# Altium footprint library OpticalComponents.PcbLib: 41 footprints (part 1 of 3)
Each footprint in its own frame and in the unit in brackets; x right, y up, seen from the top. Pads: shape width x height; smd on the part's side, far side on the other; paste and mask are expansions set on the pad; w line width, h text height; cw(c..) or ccw(c..) is an arc to the next point about the centre after c.
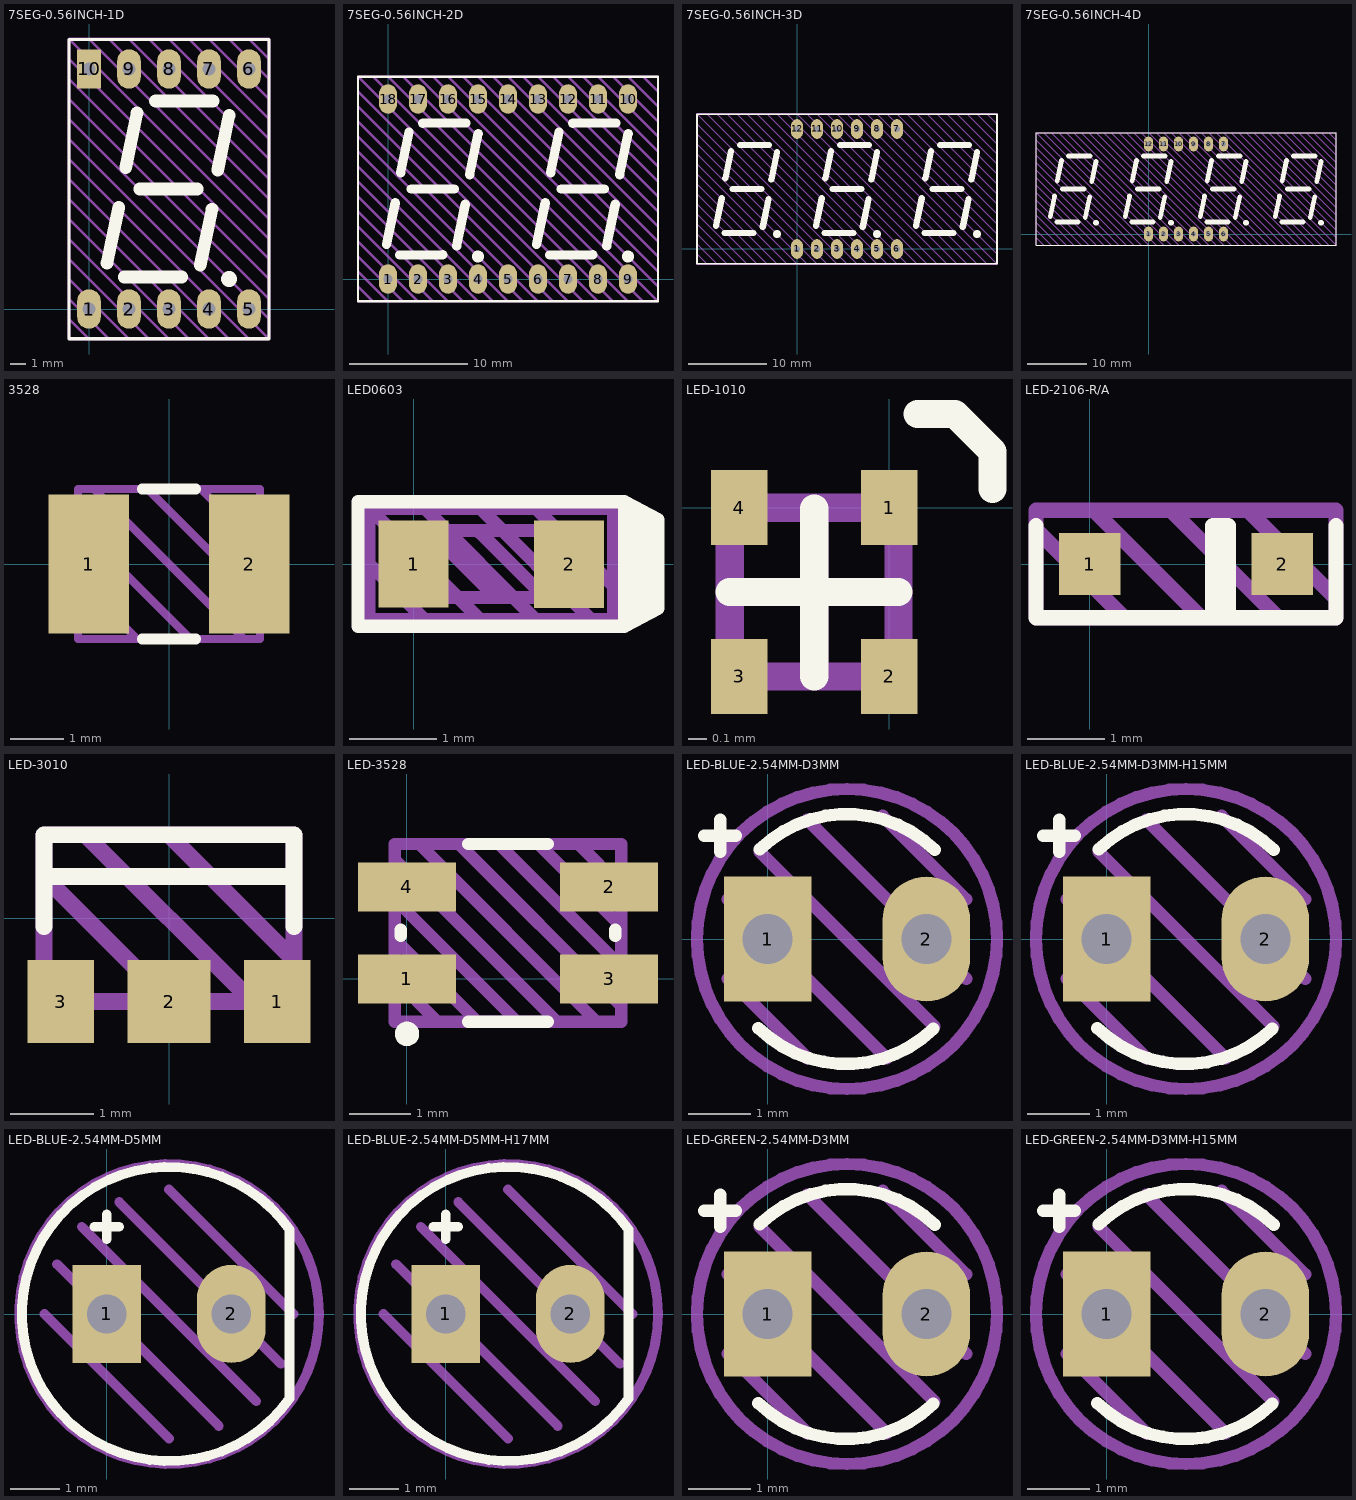
[diagram p0: the footprints below, top view; thin cyan lines are the x and y axes]

## 7SEG-0.56INCH-1D [mm]
pads (10):
  oval 1.5x2.5 hole 0.8: 1(0,0) 2(2.54,0) 3(5.08,0) 4(7.62,0) 5(10.16,0) 6(10.16,15.24) 7(7.62,15.24) 8(5.08,15.24) 9(2.54,15.24)
  rect 1.5x2.5 hole 0.8: 10(0,15.24)
Top Overlay:
  circle w0.8: c8.89,1.905 r0.1
  lines w0.2: -1.27,-1.887 -1.27,17.113 11.43,17.113 11.43,-1.887 10.584,-1.887 -1.27,-1.887
  lines w0.8: 1.143,2.921 1.88,6.45 ; 2.248,2.032 5.898,2.035 ; 2.331,8.988 3.048,12.446 ; 3.23,7.62 6.879,7.62 ; 4.224,13.205 7.874,13.208 ; 7.074,2.794 7.811,6.323 ; 8.177,8.829 8.894,12.287
Top Draw:
  lines w0.2: -1.27,-0.635 0,-1.905 ; -1.27,0.635 1.27,-1.905 ; -1.27,1.905 2.54,-1.905 ; -1.27,3.175 3.81,-1.905 ; -1.27,4.445 5.08,-1.905 ; -1.27,5.715 6.35,-1.905 ; -1.27,6.985 7.62,-1.905 ; -1.27,8.255 8.89,-1.905 ; -1.27,9.525 10.16,-1.905 ; -1.27,10.795 11.43,-1.905 ; -1.27,12.065 11.43,-0.635 ; -1.27,13.335 11.43,0.635 ; -1.27,14.605 11.43,1.905 ; -1.27,15.875 11.43,3.175 ; 0,17.145 11.43,5.715 ; 1.27,17.145 11.43,6.985 ; 2.54,17.145 11.43,8.255 ; 3.81,17.145 11.43,9.525 ; 5.08,17.145 11.43,10.795 ; 6.35,17.145 11.43,12.065 ; 7.62,17.145 11.43,13.335 ; 8.89,17.145 11.43,14.605 ; 10.16,17.145 11.43,15.875 ; 11.43,4.445 -1.27,17.145 ; -1.27,17.145 11.43,17.145 11.43,-1.905 ; -1.27,17.145 -1.27,-1.905 11.43,-1.905
Top Info:
  text "'.Comment'" at -1.27,-4.445 h1.5
3D body "SC56-11.step": height 8, standoff -2.5, extent -1.17,-1.88 11.33,17.12

## 7SEG-0.56INCH-2D [mm]
pads (18):
  oval 1.5x2.5 hole 0.8: 1(0,0) 2(2.54,0) 3(5.08,0) 4(7.62,0) 5(10.16,0) 6(12.7,0) 7(15.24,0) 8(17.78,0) 9(20.32,0) 10(20.32,15.24) 11(17.78,15.24) 12(15.24,15.24) 13(12.7,15.24) 14(10.16,15.24) 15(7.62,15.24) 16(5.08,15.24) 17(2.54,15.24) 18(0,15.24)
Top Overlay:
  circle w0.8: c20.32,1.905 r0.1
  circle w0.8: c7.62,1.905 r0.1
  lines w0.2: -2.54,-1.887 22.86,-1.887 22.86,17.113 -2.54,17.113 -2.54,-1.887
  lines w0.8: -0.127,2.921 0.61,6.45 ; 0.978,2.032 4.628,2.035 ; 1.061,8.988 1.778,12.446 ; 1.96,7.62 5.609,7.62 ; 2.954,13.205 6.604,13.208 ; 5.804,2.794 6.541,6.323 ; 6.907,8.829 7.624,12.287 ; 12.573,2.921 13.31,6.45 ; 13.678,2.032 17.328,2.035 ; 13.761,8.988 14.478,12.446 ; 14.66,7.62 18.309,7.62 ; 15.654,13.205 19.304,13.208 ; 18.504,2.794 19.241,6.323 ; 19.607,8.829 20.324,12.287
Top Draw:
  lines w0.2: -2.54,-0.635 -1.27,-1.905 ; -2.54,0.635 0,-1.905 ; -2.54,1.905 1.27,-1.905 ; -2.54,3.175 2.54,-1.905 ; -2.54,4.445 3.81,-1.905 ; -2.54,5.715 5.08,-1.905 ; -2.54,6.985 6.35,-1.905 ; -2.54,8.255 7.62,-1.905 ; -2.54,9.525 8.89,-1.905 ; -2.54,10.795 10.16,-1.905 ; -2.54,12.065 11.43,-1.905 ; -2.54,13.335 12.7,-1.905 ; -2.54,14.605 13.97,-1.905 ; -2.54,15.875 15.24,-1.905 ; -1.27,17.145 17.78,-1.905 ; 0,17.145 19.05,-1.905 ; 1.27,17.145 20.32,-1.905 ; 2.54,17.145 21.59,-1.905 ; 3.81,17.145 22.86,-1.905 ; 5.08,17.145 22.86,-0.635 ; 6.35,17.145 22.86,0.635 ; 7.62,17.145 22.86,1.905 ; 8.89,17.145 22.86,3.175 ; 10.16,17.145 22.86,4.445 ; 11.43,17.145 22.86,5.715 ; 12.7,17.145 22.86,6.985 ; 13.97,17.145 22.86,8.255 ; 15.24,17.145 22.86,9.525 ; 16.51,-1.905 -2.54,17.145 ; 16.51,17.145 22.86,10.795 ; 17.78,17.145 22.86,12.065 ; 19.05,17.145 22.86,13.335 ; 20.32,17.145 22.86,14.605 ; 21.59,17.145 22.86,15.875 ; -2.54,17.145 -2.54,-1.905 22.86,-1.905 ; -2.54,17.145 22.86,17.145 22.86,-1.905
Top Info:
  text "'.Comment'" at 3.787,-4.05 h1.5
3D body "DC56-11.step": height 8, standoff -2.5, extent -2.34,-1.88 22.66,17.12

## 7SEG-0.56INCH-3D [mm]
pads (12):
  oval 1.5x2.5 hole 0.8: 1(0,0) 2(2.54,0) 3(5.08,0) 4(7.62,0) 5(10.16,0) 6(12.7,0) 7(12.7,15.24) 8(10.16,15.24) 9(7.62,15.24) 10(5.08,15.24) 11(2.54,15.24) 12(0,15.24)
Top Overlay:
  circle w0.8: c22.86,1.905 r0.1
  circle w0.8: c10.16,1.905 r0.1
  circle w0.8: c-2.54,1.905 r0.1
  lines w0.2: -12.7,-1.887 25.4,-1.887 25.4,17.113 -12.7,17.113 -12.7,-1.887
  lines w0.8: -10.287,2.921 -9.55,6.45 ; -9.182,2.032 -5.532,2.035 ; -9.099,8.988 -8.382,12.446 ; -8.2,7.62 -4.551,7.62 ; -7.206,13.205 -3.556,13.208 ; -4.356,2.794 -3.619,6.323 ; -3.253,8.829 -2.536,12.287 ; 2.413,2.921 3.15,6.45 ; 3.518,2.032 7.168,2.035 ; 3.601,8.988 4.318,12.446 ; 4.5,7.62 8.149,7.62 ; 5.494,13.205 9.144,13.208 ; 8.344,2.794 9.081,6.323 ; 9.447,8.829 10.164,12.287 ; 15.113,2.921 15.85,6.45 ; 16.218,2.032 19.868,2.035 ; 16.301,8.988 17.018,12.446 ; 17.2,7.62 20.849,7.62 ; 18.194,13.205 21.844,13.208 ; 21.044,2.794 21.781,6.323 ; 22.147,8.829 22.864,12.287
Top Draw:
  lines w0.2: -12.7,-0.635 -11.43,-1.905 ; -12.7,0.635 -10.16,-1.905 ; -12.7,1.905 -8.89,-1.905 ; -12.7,3.175 -7.62,-1.905 ; -12.7,4.445 -6.35,-1.905 ; -12.7,5.715 -5.08,-1.905 ; -12.7,6.985 -3.81,-1.905 ; -12.7,8.255 -2.54,-1.905 ; -12.7,9.525 -1.27,-1.905 ; -12.7,10.795 0,-1.905 ; -12.7,12.065 1.27,-1.905 ; -12.7,13.335 2.54,-1.905 ; -12.7,14.605 3.81,-1.905 ; -12.7,15.875 5.08,-1.905 ; -11.43,17.145 7.62,-1.905 ; -10.16,17.145 8.89,-1.905 ; -8.89,17.145 10.16,-1.905 ; -7.62,17.145 11.43,-1.905 ; -6.35,17.145 12.7,-1.905 ; -5.08,17.145 13.97,-1.905 ; -3.81,17.145 15.24,-1.905 ; -2.54,17.145 16.51,-1.905 ; -1.27,17.145 17.78,-1.905 ; 0,17.145 19.05,-1.905 ; 1.27,17.145 20.32,-1.905 ; 2.54,17.145 21.59,-1.905 ; 3.81,17.145 22.86,-1.905 ; 5.08,17.145 24.13,-1.905 ; 6.35,-1.905 -12.7,17.145 ; 6.35,17.145 25.4,-1.905 ; 7.62,17.145 25.4,-0.635 ; 8.89,17.145 25.4,0.635 ; 10.16,17.145 25.4,1.905 ; 11.43,17.145 25.4,3.175 ; 12.7,17.145 25.4,4.445 ; 13.97,17.145 25.4,5.715 ; 15.24,17.145 25.4,6.985 ; 16.51,17.145 25.4,8.255 ; 17.78,17.145 25.4,9.525 ; 19.05,17.145 25.4,10.795 ; 20.32,17.145 25.4,12.065 ; 21.59,17.145 25.4,13.335 ; 22.86,17.145 25.4,14.605 ; 24.13,17.145 25.4,15.875 ; -12.7,17.145 -12.7,-1.905 25.4,-1.905 ; -12.7,17.145 25.4,17.145 25.4,-1.905
Top Info:
  text "'.Comment'" at -0.023,-4.05 h1.5
3D body "BC56-12.step": height 8, standoff -2.5, extent -12.4,-1.88 25.1,17.12

## 7SEG-0.56INCH-4D [mm]
pads (12):
  oval 1.5x2.5 hole 0.8: 1(0,0) 2(2.54,0) 3(5.08,0) 4(7.62,0) 5(10.16,0) 6(12.7,0) 7(12.7,15.24) 8(10.16,15.24) 9(7.62,15.24) 10(5.08,15.24) 11(2.54,15.24) 12(0,15.24)
Top Overlay:
  circle w0.8: c16.51,1.905 r0.1
  circle w0.8: c3.81,1.905 r0.1
  circle w0.8: c-8.89,1.905 r0.1
  circle w0.8: c29.21,1.905 r0.1
  lines w0.2: -19.05,-1.887 31.75,-1.887 31.75,17.113 -19.05,17.113 -19.05,-1.887
  lines w0.8: -16.637,2.921 -15.9,6.45 ; -15.532,2.032 -11.882,2.035 ; -15.449,8.988 -14.732,12.446 ; -14.55,7.62 -10.901,7.62 ; -13.556,13.205 -9.906,13.208 ; -10.706,2.794 -9.969,6.323 ; -9.603,8.829 -8.886,12.287 ; -3.937,2.921 -3.2,6.45 ; -2.832,2.032 0.818,2.035 ; -2.749,8.988 -2.032,12.446 ; -1.85,7.62 1.799,7.62 ; -0.856,13.205 2.794,13.208 ; 1.994,2.794 2.731,6.323 ; 3.097,8.829 3.814,12.287 ; 8.763,2.921 9.5,6.45 ; 9.868,2.032 13.518,2.035 ; 9.951,8.988 10.668,12.446 ; 10.85,7.62 14.499,7.62 ; 11.844,13.205 15.494,13.208 ; 14.694,2.794 15.431,6.323 ; 15.797,8.829 16.514,12.287 ; 21.463,2.921 22.2,6.45 ; 22.568,2.032 26.218,2.035 ; 22.651,8.988 23.368,12.446 ; 23.55,7.62 27.199,7.62 ; 24.544,13.205 28.194,13.208 ; 27.394,2.794 28.131,6.323 ; 28.497,8.829 29.214,12.287
Top Draw:
  lines w0.2: -19.05,-0.635 -17.78,-1.905 ; -19.05,0.635 -16.51,-1.905 ; -19.05,1.905 -15.24,-1.905 ; -19.05,3.175 -13.97,-1.905 ; -19.05,4.445 -12.7,-1.905 ; -19.05,5.715 -11.43,-1.905 ; -19.05,6.985 -10.16,-1.905 ; -19.05,8.255 -8.89,-1.905 ; -19.05,9.525 -7.62,-1.905 ; -19.05,10.795 -6.35,-1.905 ; -19.05,12.065 -5.08,-1.905 ; -19.05,13.335 -3.81,-1.905 ; -19.05,14.605 -2.54,-1.905 ; -19.05,15.875 -1.27,-1.905 ; -17.78,17.145 1.27,-1.905 ; -16.51,17.145 2.54,-1.905 ; -15.24,17.145 3.81,-1.905 ; -13.97,17.145 5.08,-1.905 ; -12.7,17.145 6.35,-1.905 ; -11.43,17.145 7.62,-1.905 ; -10.16,17.145 8.89,-1.905 ; -8.89,17.145 10.16,-1.905 ; -7.62,17.145 11.43,-1.905 ; -6.35,17.145 12.7,-1.905 ; -5.08,17.145 13.97,-1.905 ; -3.81,17.145 15.24,-1.905 ; -2.54,17.145 16.51,-1.905 ; -1.27,17.145 17.78,-1.905 ; 0,-1.905 -19.05,17.145 ; 0,17.145 19.05,-1.905 ; 1.27,17.145 20.32,-1.905 ; 2.54,17.145 21.59,-1.905 ; 3.81,17.145 22.86,-1.905 ; 5.08,17.145 24.13,-1.905 ; 7.62,17.145 26.67,-1.905 ; 8.89,17.145 27.94,-1.905 ; 10.16,17.145 29.21,-1.905 ; 11.43,17.145 30.48,-1.905 ; 12.7,17.145 31.75,-1.905 ; 13.97,17.145 31.75,-0.635 ; 15.24,17.145 31.75,0.635 ; 16.51,17.145 31.75,1.905 ; 17.78,17.145 31.75,3.175 ; 19.05,17.145 31.75,4.445 ; 20.32,17.145 31.75,5.715 ; 21.59,17.145 31.75,6.985 ; 22.86,17.145 31.75,8.255 ; 24.13,17.145 31.75,9.525 ; 25.4,-1.905 6.35,17.145 ; 25.4,17.145 31.75,10.795 ; 26.67,17.145 31.75,12.065 ; 27.94,17.145 31.75,13.335 ; 29.21,17.145 31.75,14.605 ; 30.48,17.145 31.75,15.875 ; -19.05,17.145 6.35,17.145 ; -19.05,17.145 -19.05,-1.905 6.35,-1.905 ; 6.35,-1.905 31.75,-1.905 ; 6.35,17.145 31.75,17.145 31.75,-1.905
Top Info:
  text "'.Comment'" at -0.023,-4.05 h1.5
3D body "CC56-12.step": height 8, standoff -2.5, extent -18.65,-1.88 31.35,17.12

## 3528 [mm]
pads (2):
  rect 1.5x2.6 smd: 1(-1.5,0) 2(1.5,0)
Top Overlay:
  lines w0.2: -0.5,-1.4 0.5,-1.4 ; -0.5,1.4 0.5,1.4
Top Draw:
  lines w0.15: -1.7,-0.3 -0.6,-1.4 ; -1.7,0.7 0.4,-1.4 ; -1.4,1.4 1.4,-1.4 ; -0.4,1.4 1.7,-0.7 ; 0.6,1.4 1.7,0.3 ; -1.7,-1.4 1.7,-1.4 1.7,1.4 -1.7,1.4 -1.7,-1.4
3D body "LTST-T680QEWT.step": height 1.9, standoff 0, extent -1.73,-1.4 1.73,1.4

## LED0603 [mm]
pads (2):
  rect 0.8x1 smd: 1(0,0) 2(1.778,0)
Top Overlay:
  region: 2.413,0.711 2.413,-0.711 2.794,-0.508 2.794,0.508
  lines w0.15: 2.413,-0.711 2.794,-0.508 2.794,0.508 2.413,0.711 ; 2.413,-0.711 -0.635,-0.711 -0.635,0.711 2.413,0.711 ; 2.413,-0.711 2.413,0.711
Top Draw:
  lines w0.15: -0.508,0 0.127,-0.635 ; 0.127,0.635 1.397,-0.635 ; 0.761,0.356 1.498,-0.381 ; 0.762,-0.635 -0.508,0.635 ; 0.762,0.635 2.032,-0.635 ; 0.939,-0.381 0.177,0.381 ; 1.397,0.635 2.286,-0.254 ; -0.508,0.635 2.286,0.635 2.286,-0.635 -0.508,-0.635 -0.508,0.635 ; 0.177,0.381 1.498,0.381 1.498,-0.381 ; 0.177,0.381 0.177,-0.381 1.498,-0.381
Top Info:
  text "'.Comment'" at -0.799,-1.333 h0.4
3D body: height 0.11, standoff 0.06, extent 1.552,-0.387 1.702,0.388
3D body: height 0.1, standoff 0, extent -0.073,-0.45 0.426,0.45
3D body: height 0.1, standoff 0, extent 1.352,-0.45 1.851,0.45
3D body: height 0.09, standoff 0.05, extent 0.076,-0.432 1.702,0.432
3D body: height 0.4, standoff 0.09, extent 0.076,-0.432 1.702,0.432
3D body: height 0.15, standoff 0.1, extent 0.677,-0.2 1.077,0.2

## LED-1010 [mm]
pads (4):
  rect 0.3x0.4 smd: 1(0,0) 2(0,-0.9) 3(-0.8,-0.9) 4(-0.8,0)
Top Overlay:
  lines w0.15: -0.85,-0.45 0.05,-0.45 ; -0.4,-0.9 -0.4,-0.004 ; 0.15,0.5 0.35,0.5 0.55,0.3 0.55,0.1
Top Draw:
  lines w0.15: -0.85,-0.45 0.05,-0.45 ; -0.4,-0.9 -0.4,0 ; -0.85,-0.9 -0.85,0 0.05,0 0.05,-0.9 -0.85,-0.9
Top Info:
  text "'.Comment'" at -1.462,-1.546 h0.25
3D body: height 0.17, standoff 0.15, extent -0.21,-0.86 -0.103,-0.82
3D body: height 0.2, standoff 0.15, extent -0.84,-0.38 0.04,-0.001
3D body: height 0.2, standoff 0.15, extent -0.6,-0.496 -0.2,-0.223
3D body: height 0.6, standoff 0.05, extent -0.9,-0.95 0.1,0.05
3D body: height 0.15, standoff 0, extent -0.88,-0.96 -0.6,-0.65
3D body: height 0.15, standoff 0, extent -0.88,-0.25 -0.6,0.06
3D body: height 0.15, standoff 0, extent -0.2,-0.25 0.08,0.06
3D body: height 0.15, standoff 0, extent -0.2,-0.96 0.08,-0.65
3D body: height 0.16, standoff 0.14, extent -0.85,-0.9 0.05,0
3D body: height 0.17, standoff 0.15, extent -0.58,-0.86 -0.2,-0.54

## LED-2106-R/A [mm]
pads (2):
  rect 0.8x0.8 smd: 1(0,0) 2(2.5,0)
Top Overlay:
  lines w0.2: -0.7,0.5 -0.7,-0.7 3.2,-0.7 3.2,0.5 ; 0.7,-0.7 0.8,-0.7 ; 1.6,-0.7 1.6,0.5 1.8,0.5 1.8,-0.7 ; 1.7,-0.7 1.7,0.5
Top Draw:
  lines w0.2: -0.7,0.45 0.45,-0.7 ; 0.05,0.7 1.45,-0.7 ; 1.05,0.7 2.45,-0.7 ; 2.05,0.7 3.2,-0.45 ; -0.7,-0.7 -0.7,0.7 3.2,0.7 3.2,-0.7 -0.7,-0.7
Top Info:
  text "'.Comment'" at -0.874,-1.492 h0.5

## LED-3010 [mm]
pads (3):
  rect 0.8x1 smd: 1(1.3,-1) 3(-1.3,-1)
  rect 1x1 smd: 2(0,-1)
Top Overlay:
  lines w0.2: -1.5,-0.1 -1.5,1 1.5,1 1.5,-0.1 ; -1.5,0.5 1.5,0.5
Top Draw:
  lines w0.2: -1.5,0.5 0,-1 ; -1,1 1,-1 ; 0,1 1.5,-0.5 ; -1.5,-1 1.5,-1 1.5,1 -1.5,1 -1.5,-1
Top Info:
  text "'.Comment'" at -2.124,-2.292 h0.5
3D body "KPA-3010 Right Angle LED.step": height 1, standoff 0, extent -1.5,-1 1.5,1

## LED-3528 [mm]
pads (4):
  rect 1.6x0.8 smd: 1(0,0) 2(3.3,1.5) 3(3.3,0) 4(0,1.5)
Top Overlay:
  circle w0.2: c0,-0.9 r0.1
  lines w0.2: -0.1,0.7 -0.1,0.8 ; 1,-0.7 2.3,-0.7 ; 1,2.2 2.3,2.2 ; 3.4,0.7 3.4,0.8
Top Draw:
  lines w0.2: -0.2,0 0.5,-0.7 ; -0.2,0.65 1.15,-0.7 ; -0.2,1.3 1.8,-0.7 ; -0.2,1.95 2.45,-0.7 ; 0.2,2.2 3.1,-0.7 ; 0.85,2.2 3.5,-0.45 ; 1.5,2.2 3.5,0.2 ; 2.15,2.2 3.5,0.85 ; 2.8,2.2 3.5,1.5 ; -0.2,-0.7 -0.2,2.2 3.5,2.2 3.5,-0.7 -0.2,-0.7
Top Info:
  text "'.Comment'" at -1.749,-1.917 h0.8
3D body: height 1.15, standoff 1.1, extent 1.825,0.925 1.975,1.075
3D body: height 1.15, standoff 1.1, extent 1.325,0.925 1.475,1.075
3D body: height 1.15, standoff 1.1, extent 1.825,0.425 1.975,0.575
3D body "LED-3528.stp": height 1.9, standoff 0, extent -0.1,-0.65 3.4,2.15
3D body: height 1.9, standoff 1.89, extent 0.4,-0.5 2.9,2

## LED-BLUE-2.54MM-D3MM [mm]
pads (2):
  rect 1.4x2 hole 0.8: 1(0,0)
  oval 1.4x2 hole 0.8: 2(2.54,0)
Top Overlay:
  lines w0.2: -1.016,1.651 -0.508,1.651 ; -0.762,1.397 -0.762,1.905 ; -0.147,-1.425 ccw(c1.257,-0.001) 2.653,-1.434 ; -0.125,1.433 cw(c1.27,0) 2.674,1.424
Top Draw:
  circle w0.2: c1.27,0 r2.4
  lines w0.2: -0.635,-0.635 0.635,-1.905 ; -0.635,0.635 1.905,-1.905 ; -0.127,1.397 2.667,-1.397 ; 0.635,1.905 3.175,-0.635 ; 1.841,1.968 3.175,0.635
Top Info:
  text "'.Comment'" at -1.705,-3.61 h1
3D body: height 0.5, standoff -3, extent 2.29,-0.25 2.79,0.25
3D body: height 3.7, standoff 1, extent -0.23,-1.5 2.77,1.5
3D body: height 5.3, standoff 2.3, extent -0.236,-1.5 2.764,1.5
3D body: height 0.5, standoff -3, extent -0.25,-0.25 0.25,0.25
3D body: height 1, standoff 0, extent -0.63,-1.91 2.77,1.91

## LED-BLUE-2.54MM-D3MM-H15MM [mm]
pads (2):
  rect 1.4x2 hole 0.8: 1(0,0)
  oval 1.4x2 hole 0.8: 2(2.54,0)
Top Overlay:
  lines w0.2: -1.016,1.651 -0.508,1.651 ; -0.762,1.397 -0.762,1.905 ; -0.147,-1.425 ccw(c1.258,-0.001) 2.653,-1.433 ; -0.125,1.433 cw(c1.27,0) 2.674,1.424
Top Draw:
  circle w0.2: c1.27,0 r2.4
  lines w0.2: -0.635,-0.635 0.635,-1.905 ; -0.635,0.635 1.905,-1.905 ; -0.127,1.397 2.667,-1.397 ; 0.635,1.905 3.175,-0.635 ; 1.842,1.969 3.175,0.635
Top Info:
  text "'.Comment'" at -1.705,-3.61 h1
3D body: height 10, standoff -3, extent 2.29,-0.25 2.79,0.25
3D body: height 13.4, standoff 10.7, extent -0.23,-1.5 2.77,1.5
3D body: height 15, standoff 12, extent -0.236,-1.5 2.764,1.5
3D body: height 10, standoff -3, extent -0.25,-0.25 0.25,0.25
3D body: height 10.7, standoff 9.7, extent -0.63,-1.91 2.77,1.91
3D body: height 7.8, standoff 7, extent -0.3,-0.25 0.3,0.25
3D body: height 7.8, standoff 7, extent 2.24,-0.25 2.84,0.25

## LED-BLUE-2.54MM-D5MM [mm]
pads (2):
  rect 1.4x2 hole 0.8: 1(0,0)
  oval 1.4x2 hole 0.8: 2(2.54,0)
Top Overlay:
  lines w0.2: -0.254,1.778 -0.127,1.778 0.127,1.778 0.254,1.778 ; 0,1.524 0,2.032 ; 3.727,-1.721 cw(c1.27,0) 3.727,1.721 3.727,-1.721
Top Draw:
  circle w0.2: c1.27,0 r3.059
  lines w0.2: -1.27,0 1.27,-2.54 ; -1.016,1.016 2.286,-2.286 ; -0.508,1.778 3.048,-1.778 ; 0.254,2.286 3.556,-1.016 ; 1.27,2.54 3.81,0
Top Info:
  text "'.Comment'" at -1.578,-4.372 h1
3D body: height 0.5, standoff -3, extent -0.25,-0.25 0.25,0.25
3D body: height 0.5, standoff -3, extent 2.29,-0.25 2.79,0.25
3D body: height 5.2, standoff 1, extent -1.23,-2.5 3.77,2.5
3D body: height 7.7, standoff 2.7, extent -1.236,-2.5 3.764,2.5
3D body: height 1, standoff 0, extent -1.63,-2.909 3.77,2.909

## LED-BLUE-2.54MM-D5MM-H17MM [mm]
pads (2):
  rect 1.4x2 hole 0.8: 1(0,0)
  oval 1.4x2 hole 0.8: 2(2.54,0)
Top Overlay:
  lines w0.2: -0.254,1.778 -0.127,1.778 0.127,1.778 0.254,1.778 ; 0,1.524 0,2.032 ; 3.727,-1.721 cw(c1.27,0) 3.727,1.721 3.727,-1.721
Top Draw:
  circle w0.2: c1.27,0 r3.059
  lines w0.2: -1.27,0 1.27,-2.54 ; -1.016,1.016 2.286,-2.286 ; -0.508,1.778 3.048,-1.778 ; 0.254,2.286 3.556,-1.016 ; 1.27,2.54 3.81,0
Top Info:
  text "'.Comment'" at -1.578,-4.372 h1
3D body: height 10, standoff -3, extent 2.29,-0.25 2.79,0.25
3D body: height 10, standoff -3, extent -0.25,-0.25 0.25,0.25
3D body: height 7.8, standoff 7, extent -0.3,-0.25 0.3,0.25
3D body: height 7.8, standoff 7, extent 2.24,-0.25 2.84,0.25
3D body: height 14.5, standoff 10.3, extent -1.23,-2.5 3.77,2.5
3D body: height 17, standoff 12, extent -1.236,-2.5 3.764,2.5
3D body: height 10.3, standoff 9.3, extent -1.63,-2.909 3.77,2.909

## LED-GREEN-2.54MM-D3MM [mm]
pads (2):
  rect 1.4x2 hole 0.8: 1(0,0)
  oval 1.4x2 hole 0.8: 2(2.54,0)
Top Overlay:
  lines w0.2: -1.016,1.651 -0.508,1.651 ; -0.762,1.397 -0.762,1.905 ; -0.147,-1.425 ccw(c1.257,-0.001) 2.653,-1.434 ; -0.125,1.433 cw(c1.27,0) 2.674,1.424
Top Draw:
  circle w0.2: c1.27,0 r2.4
  lines w0.2: -0.635,-0.635 0.635,-1.905 ; -0.635,0.635 1.905,-1.905 ; -0.127,1.397 2.667,-1.397 ; 0.635,1.905 3.175,-0.635 ; 1.841,1.968 3.175,0.635
Top Info:
  text "'.Comment'" at -1.705,-3.61 h1
3D body: height 0.5, standoff -1.78, extent 2.29,-0.25 2.79,0.25
3D body: height 3.7, standoff 1, extent -0.23,-1.5 2.77,1.5
3D body: height 5.3, standoff 2.3, extent -0.236,-1.5 2.764,1.5
3D body: height 0.5, standoff -1.78, extent -0.25,-0.25 0.25,0.25
3D body: height 1, standoff 0, extent -0.63,-1.91 2.77,1.91

## LED-GREEN-2.54MM-D3MM-H15MM [mm]
pads (2):
  rect 1.4x2 hole 0.8: 1(0,0)
  oval 1.4x2 hole 0.8: 2(2.54,0)
Top Overlay:
  lines w0.2: -1.016,1.651 -0.508,1.651 ; -0.762,1.397 -0.762,1.905 ; -0.147,-1.425 ccw(c1.257,-0.001) 2.653,-1.434 ; -0.125,1.433 cw(c1.27,0) 2.674,1.424
Top Draw:
  circle w0.2: c1.27,0 r2.4
  lines w0.2: -0.635,-0.635 0.635,-1.905 ; -0.635,0.635 1.905,-1.905 ; -0.127,1.397 2.667,-1.397 ; 0.635,1.905 3.175,-0.635 ; 1.841,1.968 3.175,0.635
Top Info:
  text "'.Comment'" at -1.705,-3.61 h1
3D body: height 7.8, standoff 7, extent 2.24,-0.25 2.84,0.25
3D body: height 7.8, standoff 7, extent -0.3,-0.25 0.3,0.25
3D body: height 10.7, standoff 9.7, extent -0.63,-1.91 2.77,1.91
3D body: height 10, standoff -3, extent -0.25,-0.25 0.25,0.25
3D body: height 15, standoff 12, extent -0.236,-1.5 2.764,1.5
3D body: height 13.4, standoff 10.7, extent -0.23,-1.5 2.77,1.5
3D body: height 10, standoff -3, extent 2.29,-0.25 2.79,0.25